# Altium schematic symbol library POGO.Schlib: 1 symbol
Pins are listed as number, name and electrical type; pins without a type are passive.

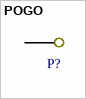
[diagram p0: symbol POGO]

## POGO
designator P?
pins: 1 TP